# Altium schematic symbol library switch_03.SchLib: 1 symbol
Pins are listed as number, name and electrical type; pins without a type are passive.

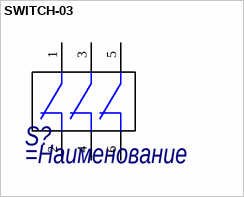
[diagram p0: symbol SWITCH-03]

## SWITCH-03
designator S?
=Описание
pins: 1, 2, 3, 4, 5, 6